# EAGLE library part IICEXPLCD (library CustomLib)
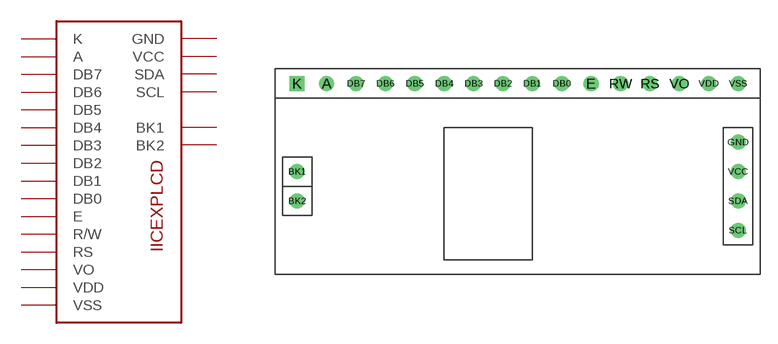
[diagram p10: symbol with the pads of IICEXPLCD; footprint IICEXPLCD]

Designator prefix -

## IICEXPLCD  [IICEXPLCD]
A  A
BK1  BK1  pwr
BK2  BK2  pwr
DB0  DB0
DB1  DB1
DB2  DB2
DB3  DB3
DB4  DB4
DB5  DB5
DB6  DB6
DB7  DB7
E  E
GND  GND  pwr
K  K
RS  RS
RW  R/W
SCL  SCL
SDA  SDA
VCC  VCC  pwr
VDD  VDD  pwr
VO  VO
VSS  VSS  pwr

## Footprint IICEXPLCD (pad centres in mm)
drill 0.8: A -16.51,6.35; BK1 -19.05,-1.27; BK2 -19.05,-3.81; DB0 3.81,6.35; DB1 1.27,6.35; DB2 -1.27,6.35; DB3 -3.81,6.35; DB4 -6.35,6.35; DB5 -8.89,6.35; DB6 -11.43,6.35; DB7 -13.97,6.35; E 6.35,6.35; GND 19.05,1.27; RS 11.43,6.35; RW 8.89,6.35; SCL 19.05,-6.35; SDA 19.05,-3.81; VCC 19.05,-1.27; VDD 16.51,6.35; VO 13.97,6.35; VSS 19.05,6.35
drill 0.8 square: K -19.05,6.35